# Altium schematic symbol library 12V_Barrel_jack.SchLib: 1 symbol
Pins are listed as number, name and electrical type; pins without a type are passive.

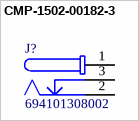
[diagram p0: symbol CMP-1502-00182-3]

## CMP-1502-00182-3
designator J?, comment 694101308002
DC Power Jack Connector Low Profile WR-DC, Male, Right Angled, THT, 2 A, 12 V; Shielding: Unshielded; Operating Supply Voltage: 12V; Insulation Resistance: 100MΩ; Current Rating: 2A; Connector Type: Power; Packaging: Bulk; RoHS: Compliant; Termination: Through Hole; Voltage Rating (DC): 12V; Mount: Through Hole; Max Operating Temperature: 85°C; Min Operating Temperature: -20°C; REACH SVHC: Unknown; Housing Material: Polyamide; Color: Black; Contact Plating: Tin; Voltage Rating: 12V; Flammability Rating: UL94 V-0; Contact Gender: Male; Gender: Male
footprint 694101308002 (DC Power Jack THT Right Angled Low Profile(2.8))
pins: 1, 2, 3